# EAGLE library part 68611614122 (library Eagle_FPC_CONNECTOR_AND_FFC_CAB (rev18c))
WR-FPC 1.00mm SMT ZIF Horizontal Top Contact, 16 Pins=>Code : Con_FPC_ZIF_1.00_68611614122 <http://katalog.we-online.de/media/images/eican/Con_FPC_ZIF_1.00_6861xx14122_pf2.jpg> Details see: http://katalog.we-online.de/en/em/686_1xx_141_22 Created 2014-07-09, Karrer Zheng 2014 (C) Würth Elektronik
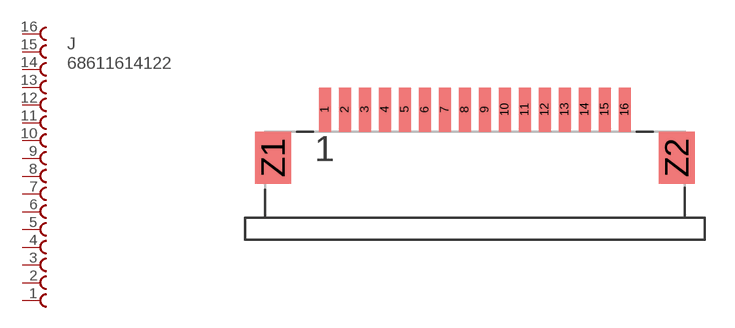
[diagram p37: symbol with the pads of 68611614122; footprint 68611614122]

Designator prefix J

## 68611614122  [68611614122]
1  16  pas
2  15  pas
3  14  pas
4  13  pas
5  12  pas
6  11  pas
7  10  pas
8  9  pas
9  8  pas
10  7  pas
11  6  pas
12  5  pas
13  4  pas
14  3  pas
15  2  pas
16  1  pas

## Footprint 68611614122 (pad centres in mm)
WR-FPC 1.00mm SMT ZIF Horizontal Top Contact, 16 Pins
smd 0.6 x 2.2: 1 -7.5,2.4; 2 -6.5,2.4; 3 -5.5,2.4; 4 -4.5,2.4; 5 -3.5,2.4; 6 -2.5,2.4; 7 -1.5,2.4; 8 -0.5,2.4; 9 0.5,2.4; 10 1.5,2.4; 11 2.5,2.4; 12 3.5,2.4; 13 4.5,2.4; 14 5.5,2.4; 15 6.5,2.4; 16 7.5,2.4
smd 1.8 x 2.6: Z1 -10.1,0; Z2 10.1,0